# EAGLE library part DIL16PROTO (library dec-con)
DIL 16 with prototypyng pads
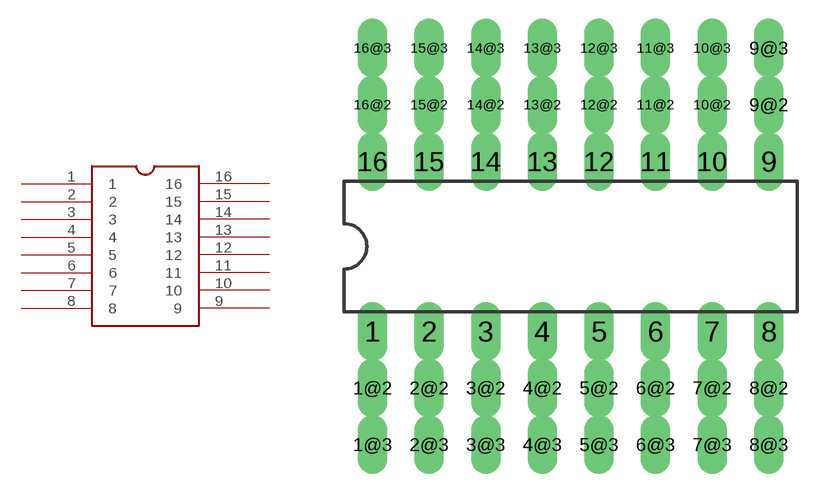
[diagram p38: symbol with the pads of DIL16PROTO; footprint DIL16PROTO]

Designator prefix -

## DIL16PROTO  [DIL16PROTO]
1  1  pas
1@2  1  pas
1@3  1  pas
2  2  pas
2@2  2  pas
2@3  2  pas
3  3  pas
3@2  3  pas
3@3  3  pas
4  4  pas
4@2  4  pas
4@3  4  pas
5  5  pas
5@2  5  pas
5@3  5  pas
6  6  pas
6@2  6  pas
6@3  6  pas
7  7  pas
7@2  7  pas
7@3  7  pas
8  8  pas
8@2  8  pas
8@3  8  pas
9  9  pas
9@2  9  pas
9@3  9  pas
10  10  pas
10@2  10  pas
10@3  10  pas
11  11  pas
11@2  11  pas
11@3  11  pas
12  12  pas
12@2  12  pas
12@3  12  pas
13  13  pas
13@2  13  pas
13@3  13  pas
14  14  pas
14@2  14  pas
14@3  14  pas
15  15  pas
15@2  15  pas
15@3  15  pas
16  16  pas
16@2  16  pas
16@3  16  pas

## Footprint DIL16PROTO (pad centres in mm)
Dual In Line Package with extra pads for prototyping
drill 0.813 long: 1 -8.89,-3.81; 1@2 -8.89,-6.35; 1@3 -8.89,-8.89; 2 -6.35,-3.81; 2@2 -6.35,-6.35; 2@3 -6.35,-8.89; 3 -3.81,-3.81; 3@2 -3.81,-6.35; 3@3 -3.81,-8.89; 4 -1.27,-3.81; 4@2 -1.27,-6.35; 4@3 -1.27,-8.89; 5 1.27,-3.81; 5@2 1.27,-6.35; 5@3 1.27,-8.89; 6 3.81,-3.81; 6@2 3.81,-6.35; 6@3 3.81,-8.89; 7 6.35,-3.81; 7@2 6.35,-6.35; 7@3 6.35,-8.89; 8 8.89,-3.81; 8@2 8.89,-6.35; 8@3 8.89,-8.89; 9 8.89,3.81; 9@2 8.89,6.35; 9@3 8.89,8.89; 10 6.35,3.81; 10@2 6.35,6.35; 10@3 6.35,8.89; 11 3.81,3.81; 11@2 3.81,6.35; 11@3 3.81,8.89; 12 1.27,3.81; 12@2 1.27,6.35; 12@3 1.27,8.89; 13 -1.27,3.81; 13@2 -1.27,6.35; 13@3 -1.27,8.89; 14 -3.81,3.81; 14@2 -3.81,6.35; 14@3 -3.81,8.89; 15 -6.35,3.81; 15@2 -6.35,6.35; 15@3 -6.35,8.89; 16 -8.89,3.81; 16@2 -8.89,6.35; 16@3 -8.89,8.89